# Altium schematic symbol library SCH - MCU - ATMEGA - MICROCHIP ATXMEGA128A1U-AU TQFP100.SchLib: 1 symbol
Pins are listed as number, name and electrical type; pins without a type are passive.

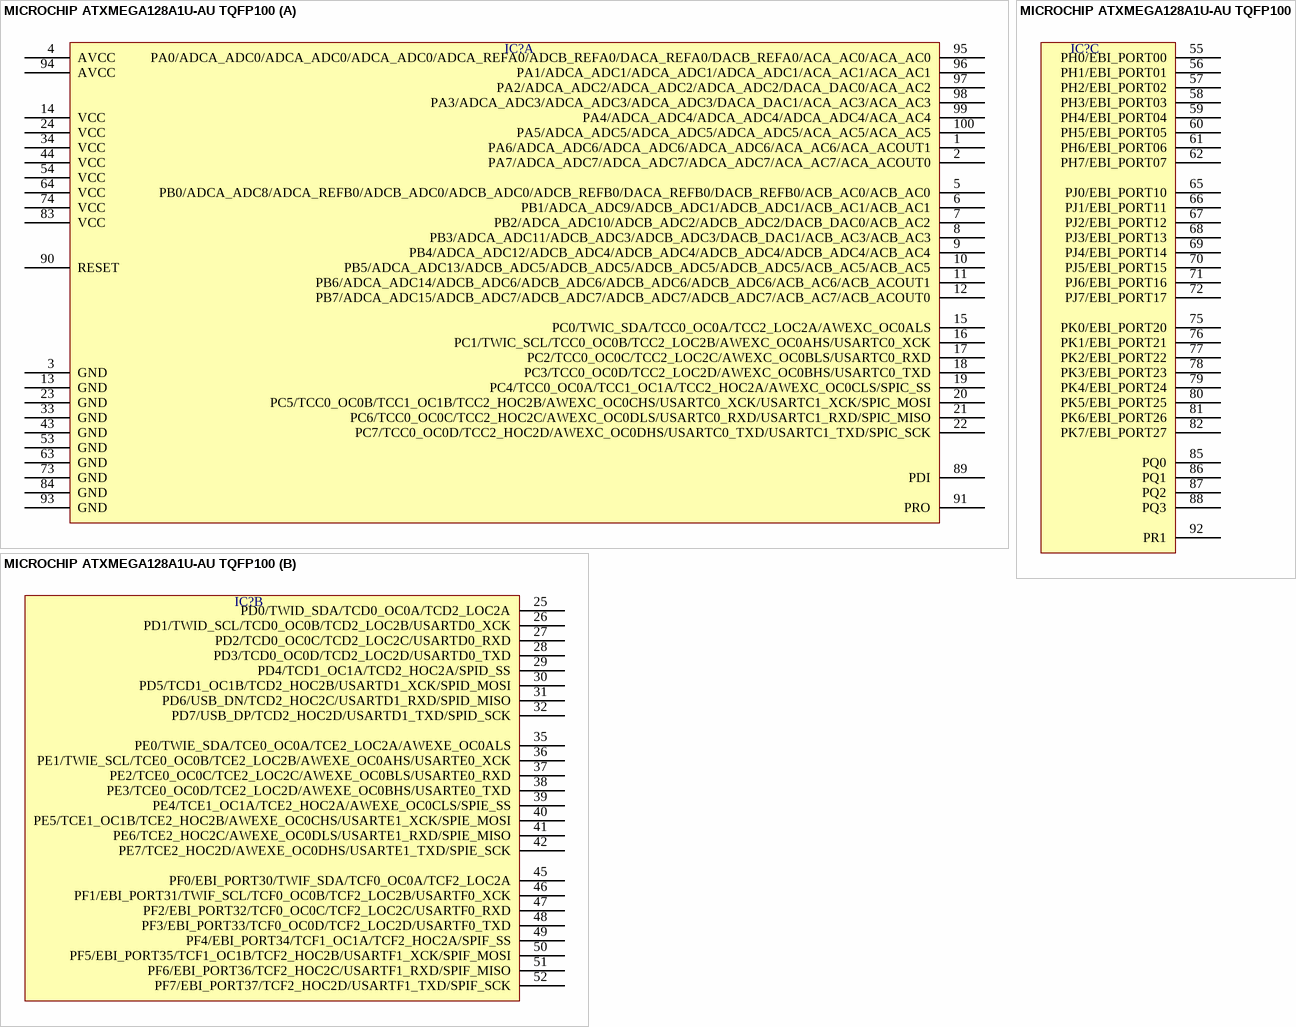
[diagram p0: symbol MICROCHIP ATXMEGA128A1U-AU TQFP100]

## MICROCHIP ATXMEGA128A1U-AU TQFP100
designator IC?  (value not drawn)
part A pins: 1 PA6/ADCA_ADC6/ADCA_ADC6/ADCA_ADC6/ACA_AC6/ACA_ACOUT1, 2 PA7/ADCA_ADC7/ADCA_ADC7/ADCA_ADC7/ACA_AC7/ACA_ACOUT0, 3 GND, 4 AVCC, 5 PB0/ADCA_ADC8/ADCA_REFB0/ADCB_ADC0/ADCB_ADC0/ADCB_REFB0/DACA_REFB0/DACB_REFB0/ACB_AC0/ACB_AC0, 6 PB1/ADCA_ADC9/ADCB_ADC1/ADCB_ADC1/ACB_AC1/ACB_AC1, 7 PB2/ADCA_ADC10/ADCB_ADC2/ADCB_ADC2/DACB_DAC0/ACB_AC2, 8 PB3/ADCA_ADC11/ADCB_ADC3/ADCB_ADC3/DACB_DAC1/ACB_AC3/ACB_AC3, 9 PB4/ADCA_ADC12/ADCB_ADC4/ADCB_ADC4/ADCB_ADC4/ADCB_ADC4/ACB_AC4, 10 PB5/ADCA_ADC13/ADCB_ADC5/ADCB_ADC5/ADCB_ADC5/ADCB_ADC5/ACB_AC5/ACB_AC5, 11 PB6/ADCA_ADC14/ADCB_ADC6/ADCB_ADC6/ADCB_ADC6/ADCB_ADC6/ACB_AC6/ACB_ACOUT1, 12 PB7/ADCA_ADC15/ADCB_ADC7/ADCB_ADC7/ADCB_ADC7/ADCB_ADC7/ACB_AC7/ACB_ACOUT0, 13 GND, 14 VCC, 15 PC0/TWIC_SDA/TCC0_OC0A/TCC2_LOC2A/AWEXC_OC0ALS, 16 PC1/TWIC_SCL/TCC0_OC0B/TCC2_LOC2B/AWEXC_OC0AHS/USARTC0_XCK, 17 PC2/TCC0_OC0C/TCC2_LOC2C/AWEXC_OC0BLS/USARTC0_RXD, 18 PC3/TCC0_OC0D/TCC2_LOC2D/AWEXC_OC0BHS/USARTC0_TXD, 19 PC4/TCC0_OC0A/TCC1_OC1A/TCC2_HOC2A/AWEXC_OC0CLS/SPIC_SS, 20 PC5/TCC0_OC0B/TCC1_OC1B/TCC2_HOC2B/AWEXC_OC0CHS/USARTC0_XCK/USARTC1_XCK/SPIC_MOSI, 21 PC6/TCC0_OC0C/TCC2_HOC2C/AWEXC_OC0DLS/USARTC0_RXD/USARTC1_RXD/SPIC_MISO, 22 PC7/TCC0_OC0D/TCC2_HOC2D/AWEXC_OC0DHS/USARTC0_TXD/USARTC1_TXD/SPIC_SCK, 23 GND, 24 VCC, 33 GND, 34 VCC, 43 GND, 44 VCC, 53 GND, 54 VCC, 63 GND, 64 VCC, 73 GND, 74 VCC, 83 VCC, 84 GND, 89 PDI, 90 RESET, 91 PRO, 93 GND, 94 AVCC, 95 PA0/ADCA_ADC0/ADCA_ADC0/ADCA_ADC0/ADCA_REFA0/ADCB_REFA0/DACA_REFA0/DACB_REFA0/ACA_AC0/ACA_AC0, 96 PA1/ADCA_ADC1/ADCA_ADC1/ADCA_ADC1/ACA_AC1/ACA_AC1, 97 PA2/ADCA_ADC2/ADCA_ADC2/ADCA_ADC2/DACA_DAC0/ACA_AC2, 98 PA3/ADCA_ADC3/ADCA_ADC3/ADCA_ADC3/DACA_DAC1/ACA_AC3/ACA_AC3, 99 PA4/ADCA_ADC4/ADCA_ADC4/ADCA_ADC4/ACA_AC4, 100 PA5/ADCA_ADC5/ADCA_ADC5/ADCA_ADC5/ACA_AC5/ACA_AC5
part B pins: 25 PD0/TWID_SDA/TCD0_OC0A/TCD2_LOC2A, 26 PD1/TWID_SCL/TCD0_OC0B/TCD2_LOC2B/USARTD0_XCK, 27 PD2/TCD0_OC0C/TCD2_LOC2C/USARTD0_RXD, 28 PD3/TCD0_OC0D/TCD2_LOC2D/USARTD0_TXD, 29 PD4/TCD1_OC1A/TCD2_HOC2A/SPID_SS, 30 PD5/TCD1_OC1B/TCD2_HOC2B/USARTD1_XCK/SPID_MOSI, 31 PD6/USB_DN/TCD2_HOC2C/USARTD1_RXD/SPID_MISO, 32 PD7/USB_DP/TCD2_HOC2D/USARTD1_TXD/SPID_SCK, 35 PE0/TWIE_SDA/TCE0_OC0A/TCE2_LOC2A/AWEXE_OC0ALS, 36 PE1/TWIE_SCL/TCE0_OC0B/TCE2_LOC2B/AWEXE_OC0AHS/USARTE0_XCK, 37 PE2/TCE0_OC0C/TCE2_LOC2C/AWEXE_OC0BLS/USARTE0_RXD, 38 PE3/TCE0_OC0D/TCE2_LOC2D/AWEXE_OC0BHS/USARTE0_TXD, 39 PE4/TCE1_OC1A/TCE2_HOC2A/AWEXE_OC0CLS/SPIE_SS, 40 PE5/TCE1_OC1B/TCE2_HOC2B/AWEXE_OC0CHS/USARTE1_XCK/SPIE_MOSI, 41 PE6/TCE2_HOC2C/AWEXE_OC0DLS/USARTE1_RXD/SPIE_MISO, 42 PE7/TCE2_HOC2D/AWEXE_OC0DHS/USARTE1_TXD/SPIE_SCK, 45 PF0/EBI_PORT30/TWIF_SDA/TCF0_OC0A/TCF2_LOC2A, 46 PF1/EBI_PORT31/TWIF_SCL/TCF0_OC0B/TCF2_LOC2B/USARTF0_XCK, 47 PF2/EBI_PORT32/TCF0_OC0C/TCF2_LOC2C/USARTF0_RXD, 48 PF3/EBI_PORT33/TCF0_OC0D/TCF2_LOC2D/USARTF0_TXD, 49 PF4/EBI_PORT34/TCF1_OC1A/TCF2_HOC2A/SPIF_SS, 50 PF5/EBI_PORT35/TCF1_OC1B/TCF2_HOC2B/USARTF1_XCK/SPIF_MOSI, 51 PF6/EBI_PORT36/TCF2_HOC2C/USARTF1_RXD/SPIF_MISO, 52 PF7/EBI_PORT37/TCF2_HOC2D/USARTF1_TXD/SPIF_SCK
part C pins: 55 PH0/EBI_PORT00, 56 PH1/EBI_PORT01, 57 PH2/EBI_PORT02, 58 PH3/EBI_PORT03, 59 PH4/EBI_PORT04, 60 PH5/EBI_PORT05, 61 PH6/EBI_PORT06, 62 PH7/EBI_PORT07, 65 PJ0/EBI_PORT10, 66 PJ1/EBI_PORT11, 67 PJ2/EBI_PORT12, 68 PJ3/EBI_PORT13, 69 PJ4/EBI_PORT14, 70 PJ5/EBI_PORT15, 71 PJ6/EBI_PORT16, 72 PJ7/EBI_PORT17, 75 PK0/EBI_PORT20, 76 PK1/EBI_PORT21, 77 PK2/EBI_PORT22, 78 PK3/EBI_PORT23, 79 PK4/EBI_PORT24, 80 PK5/EBI_PORT25, 81 PK6/EBI_PORT26, 82 PK7/EBI_PORT27, 85 PQ0, 86 PQ1, 87 PQ2, 88 PQ3, 92 PR1